# EAGLE library part 09565527613 (library 09565527613)
HARTING - 09565527613 - HD D-SUB CONNECTOR, RECEPTACLE, 78POS Source: Datasheet <https://b2b.harting.com/files/download/PRD/PDF_TS/0956552X613_100510350DRW001D.pdf>
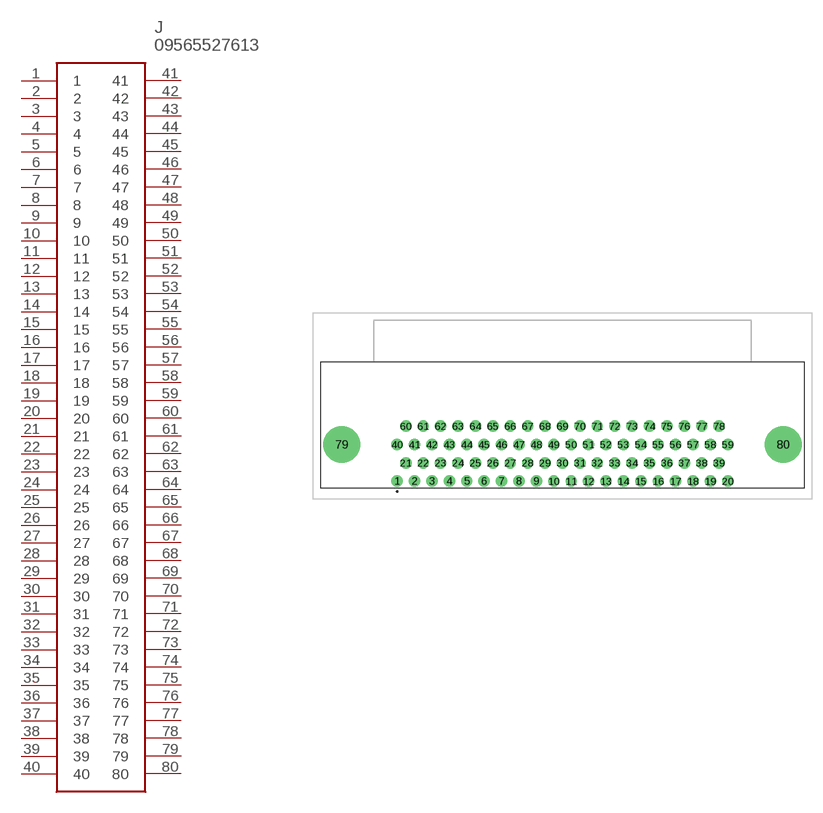
[diagram p0: symbol with the pads of 09565527613; footprint 09565527613]

Designator prefix J

## 09565527613 (Allied_Number: 70738195; Allied_Price-Stock: https://www.alliedelec.com/harting-09565527613/70738195/; Description: HARTING - 09565527613 - HD D-SUB CONNECTOR, RECEPTACLE, 78POS; Height: mm; Manufacturer_Name: HARTING; Manufacturer_Part_Number: 09565527613; Mouser_Part_Number: 617-09-56-552-7613; Mouser_Price-Stock: https://www.mouser.com/Search/Refine.aspx?Keyword=617-09-56-552-7613)  [09565527613]
1  1
2  2
3  3
4  4
5  5
6  6
7  7
8  8
9  9
10  10
11  11
12  12
13  13
14  14
15  15
16  16
17  17
18  18
19  19
20  20
21  21
22  22
23  23
24  24
25  25
26  26
27  27
28  28
29  29
30  30
31  31
32  32
33  33
34  34
35  35
36  36
37  37
38  38
39  39
40  40
41  41
42  42
43  43
44  44
45  45
46  46
47  47
48  48
49  49
50  50
51  51
52  52
53  53
54  54
55  55
56  56
57  57
58  58
59  59
60  60
61  61
62  62
63  63
64  64
65  65
66  66
67  67
68  68
69  69
70  70
71  71
72  72
73  73
74  74
75  75
76  76
77  77
78  78
79  79
80  80

## Footprint 09565527613 (pad centres in mm)
09565527613
drill 1.05 pad 1.575: 1 -22.895,-10.395; 2 -20.485,-10.395; 3 -18.075,-10.395; 4 -15.665,-10.395; 5 -13.255,-10.395; 6 -10.845,-10.395; 7 -8.435,-10.395; 8 -6.025,-10.395; 9 -3.615,-10.395; 10 -1.205,-10.395; 11 1.205,-10.395; 12 3.615,-10.395; 13 6.025,-10.395; 14 8.435,-10.395; 15 10.845,-10.395; 16 13.255,-10.395; 17 15.665,-10.395; 18 18.075,-10.395; 19 20.485,-10.395; 20 22.895,-10.395; 21 -21.69,-7.855; 22 -19.28,-7.855; 23 -16.87,-7.855; 24 -14.46,-7.855; 25 -12.05,-7.855; 26 -9.64,-7.855; 27 -7.23,-7.855; 28 -4.82,-7.855; 29 -2.41,-7.855; 30 0,-7.855; 31 2.41,-7.855; 32 4.82,-7.855; 33 7.23,-7.855; 34 9.64,-7.855; 35 12.05,-7.855; 36 14.46,-7.855; 37 16.87,-7.855; 38 19.28,-7.855; 39 21.69,-7.855; 40 -22.895,-5.315; 41 -20.485,-5.315; 42 -18.075,-5.315; 43 -15.665,-5.315; 44 -13.255,-5.315; 45 -10.845,-5.315; 46 -8.435,-5.315; 47 -6.025,-5.315; 48 -3.615,-5.315; 49 -1.205,-5.315; 50 1.205,-5.315; 51 3.615,-5.315; 52 6.025,-5.315; 53 8.435,-5.315; 54 10.845,-5.315; 55 13.255,-5.315; 56 15.665,-5.315; 57 18.075,-5.315; 58 20.485,-5.315; 59 22.895,-5.315; 60 -21.69,-2.775; 61 -19.28,-2.775; 62 -16.87,-2.775; 63 -14.46,-2.775; 64 -12.05,-2.775; 65 -9.64,-2.775; 66 -7.23,-2.775; 67 -4.82,-2.775; 68 -2.41,-2.775; 69 0,-2.775; 70 2.41,-2.775; 71 4.82,-2.775; 72 7.23,-2.775; 73 9.64,-2.775; 74 12.05,-2.775; 75 14.46,-2.775; 76 16.87,-2.775; 77 19.28,-2.775; 78 21.69,-2.775
drill 3.4 pad 5.1: 79 -30.56,-5.315; 80 30.56,-5.315